# Altium footprint library PCB - CONNECTOR - USB - AMPHENOL USB 73725-0110BLF.PCBLIB: 1 footprints
Each footprint in its own frame and in the unit in brackets; x right, y up, seen from the top. Pads: shape width x height; smd on the part's side, far side on the other; paste and mask are expansions set on the pad; w line width, h text height; cw(c..) or ccw(c..) is an arc to the next point about the centre after c.
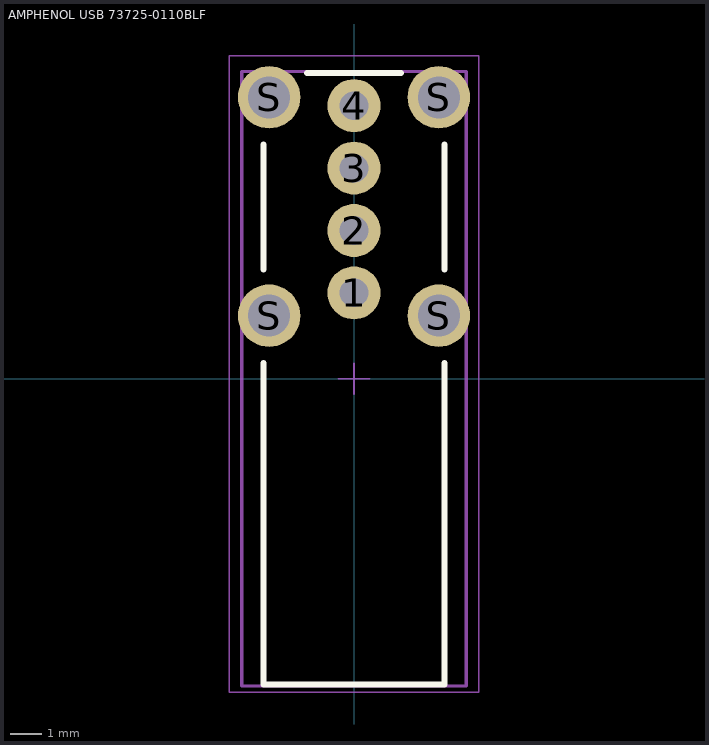
[diagram p0: the footprint, top view; thin cyan lines are the x and y axes]

## AMPHENOL USB 73725-0110BLF [mm] "USB2.0 TYPEA 4 Pin Pitch 2mm"
height 15
pads (8):
  round 1.7 hole 0.92: 1(0,2.75) 2(0,4.75) 3(0,6.75) 4(0,8.75)
  round 2 hole 1.35: S(-2.72,2.02) S(-2.72,9.02) S(2.72,2.02) S(2.72,9.02)
Top Overlay:
  lines w0.2: -2.9,0.5 -2.9,-9.8 2.9,-9.8 2.9,0.5 ; -2.9,3.5 -2.9,7.5 ; -1.5,9.8 1.5,9.8 ; 2.9,3.5 2.9,7.5
Mechanical 13:
  lines w0.1: -3.6,-9.85 3.6,-9.85 3.6,9.85 -3.6,9.85 -3.6,-9.85
Mechanical 15:
  lines w0.05: -0.5,0 0.5,0 ; 0,-0.5 0,0.5 ; -4,-10.05 4,-10.05 4,10.35 -4,10.35 -4,-10.05
3D body "Amphenol - 73725-0110BLF.step": height 14.53, standoff -3.28, extent -3.56,-9.85 3.56,9.85